# Altium schematic symbol library HM3413.SchLib: 2 symbols
Pins are listed as number, name and electrical type; pins without a type are passive.

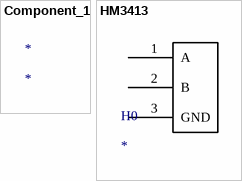
[diagram p0: symbols Component_1 to HM3413]

## Component_1
designator *

## HM3413
designator H0
3 Pin 0.1in Straight Locking Header - 2.54mm Pitch - Single
pins: 1 A, 2 B, 3 GND